# Altium integrated library Integrated_Library1.IntLib: 31 symbols
Pins are listed as number, name and electrical type; pins without a type are passive.

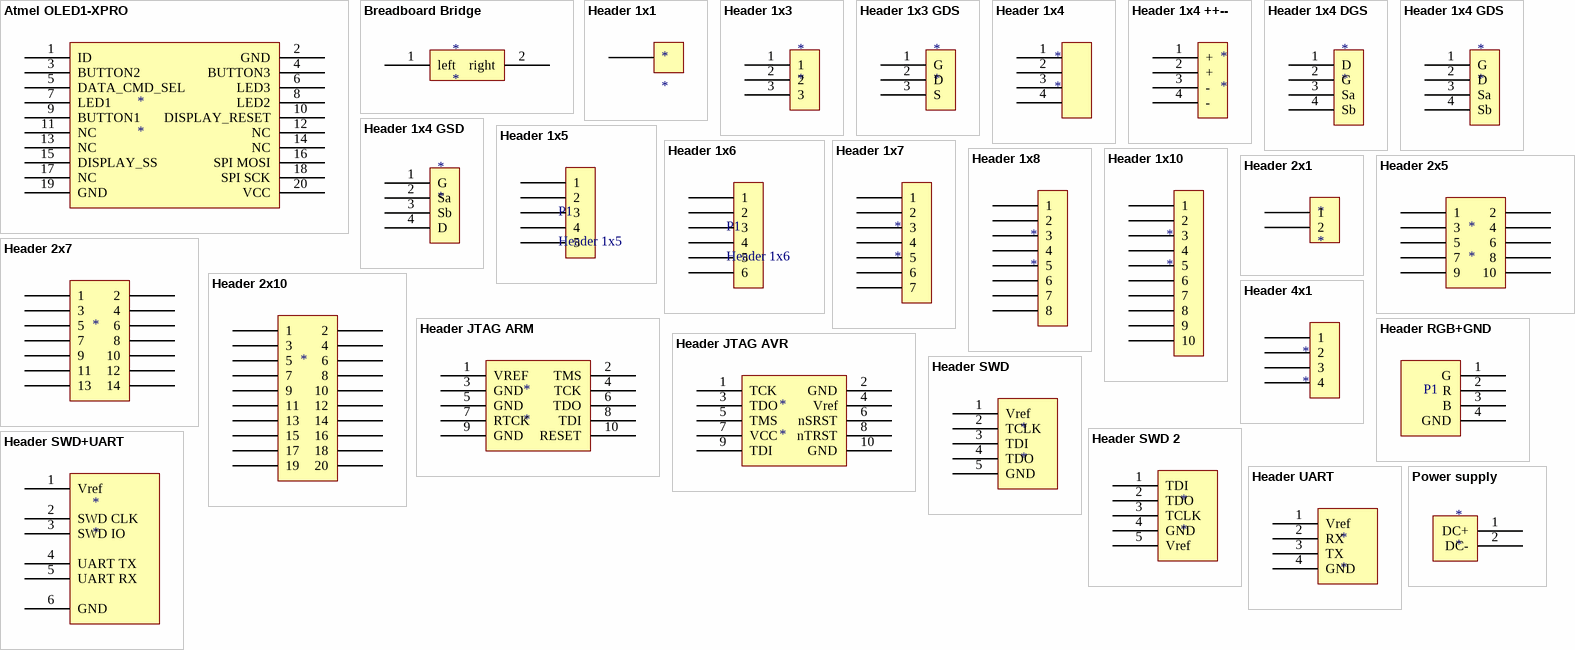
[diagram p0: symbols Atmel OLED1-XPRO to Power supply]

## Atmel OLED1-XPRO
designator *
pins: 1 ID, 2 GND, 3 BUTTON2, 4 BUTTON3, 5 DATA_CMD_SEL, 6 LED3, 7 LED1, 8 LED2, 9 BUTTON1, 10 DISPLAY_RESET, 11 NC, 12 NC, 13 NC, 14 NC, 15 DISPLAY_SS, 16 SPI MOSI, 17 NC, 18 SPI SCK, 19 GND, 20 VCC

## Breadboard Bridge
designator *
footprint Breadboard Bridge (2.54mm)
pins: 1 left, 2 right

## Header 1x1
designator *
footprint Header 1x1 long (2.54mm)
pins: 1

## Header 1x3
designator *
footprint Pin Header 1x3 TH Pitch 2.54mm (PinHeader 1x3 TH Pitch 2.54mm)
pins: 1, 2, 3

## Header 1x3 GDS
designator *
footprint Header 1x3 (2.54mm)
pins: 1 G, 2 D, 3 S

## Header 1x4
designator *
footprint Header 1x4 (2.54mm)
pins: 1, 2, 3, 4

## Header 1x4 ++--
designator *
footprint Header 1x4 (2.54mm)
pins: 1 +, 2 +, 3 -, 4 -

## Header 1x4 DGS
designator *
footprint Header 1x4 (2.54mm)
pins: 1 D, 2 G, 3 Sa, 4 Sb

## Header 1x4 GDS
designator *
footprint Header 1x4 (2.54mm)
pins: 1 G, 2 D, 3 Sa, 4 Sb

## Header 1x4 GSD
designator *
footprint Header 1x4 (2.54mm)
pins: 1 G, 2 Sa, 3 Sb, 4 D

## Header 1x5
designator P1
footprint Header 1x5 male (2.54mm)
pins: 1, 2, 3, 4, 5

## Header 1x6
designator P1
footprint Header 1x6 (2.54mm)
pins: 1, 2, 3, 4, 5, 6

## Header 1x7
designator *
footprint Header 1x7 (2.54mm)
pins: 1, 2, 3, 4, 5, 6, 7

## Header 1x8
designator *
pins: 1, 2, 3, 4, 5, 6, 7, 8

## Header 1x10
designator *
footprint Header 1x10 male (2.54mm)
pins: 1, 2, 3, 4, 5, 6, 7, 8, 9, 10

## Header 2x1
designator *
pins: 1, 2

## Header 2x5
designator *
pins: 1, 2, 3, 4, 5, 6, 7, 8, 9, 10

## Header 2x7
designator *  (value not drawn)
pins: 1, 2, 3, 4, 5, 6, 7, 8, 9, 10, 11, 12, 13, 14

## Header 2x10
designator *  (value not drawn)
pins: 1, 2, 3, 4, 5, 6, 7, 8, 9, 10, 11, 12, 13, 14, 15, 16, 17, 18, 19, 20

## Header 4x1
designator *
pins: 1, 2, 3, 4

## Header JTAG ARM
designator *
footprint Header 2x5 IDC-10S
pins: 1 VREF, 2 TMS, 3 GND, 4 TCK, 5 GND, 6 TDO, 7 RTCK, 8 TDI, 9 GND, 10 RESET

## Header JTAG AVR
designator *
footprint Header 2x5 IDC-10S
pins: 1 TCK, 2 GND, 3 TDO, 4 Vref, 5 TMS, 6 nSRST, 7 VCC, 8 nTRST, 9 TDI, 10 GND

## Header RGB+GND
designator P1  (value not drawn)
pins: 1 G, 2 R, 3 B, 4 GND

## Header SWD
designator *
pins: 1 Vref, 2 TCLK, 3 TDI, 4 TDO, 5 GND

## Header SWD 2
designator *
pins: 1 TDI, 2 TDO, 3 TCLK, 4 GND, 5 Vref

## Header SWD+UART
designator *
pins: 1 Vref, 2 SWD CLK, 3 SWD IO, 4 UART TX, 5 UART RX, 6 GND

## Header UART
designator *
pins: 1 Vref, 2 RX, 3 TX, 4 GND

## Power supply
designator *
pins: 1 DC+, 2 DC-


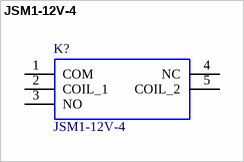
[diagram p1: symbol JSM1-12V-4]

## JSM1-12V-4
designator K?
PANASONIC ELECTRIC WORKS - JSM1-12V-4 - RELAY, AUTOMOTIVE, SPDT, 16VDC, 10A; Allied_Number: 70618207; Manufacturer_Name: Panasonic; Manufacturer_Part_Number: JSM1-12V-4; RS Part Number: *; RS Price/Stock: *; Allied Price/Stock: https://www.alliedelec.com/panasonic-jsm1-12v-4/70618207/; Arrow Part Number: JSM1-12V-4; Arrow Price/Stock: https://www.arrow.com/en/products/jsm1-12v-4/panasonic; Datasheet Link: https://media.digikey.com/pdf/Data%20Sheets/Panasonic%20Electric%20Works%20PDFs/JS-M_Series_Rev_Dec_2011.pdf
footprint JSM112V4
pins: 1 COM, 2 COIL_1, 3 NO, 4 NC, 5 COIL_2


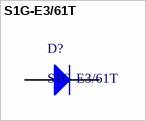
[diagram p2: symbol S1G-E3/61T]

## S1G-E3/61T
designator D?
Surface Mount Glass Passivated Rectifier, 400 VDC, 1 A, -55 to 150 degC, 2-Pin SMD, RoHS, Tape and Reel; Manufacturer: Vishay Semiconductor; RoHSCompliant: true; REACH SVHC: Unknown; Min Operating Temperature: -55 degC; ComponentLink2Description: Datasheet; DatasheetVersion: 02/2016; Mount: Surface Mount; Package Quantity: 1800; ComponentLink1URL: http://www.vishay.com/; ComponentLink1Description: Manufacturer URL; Height: 2.29 mm; Packaging: Tape and Reel; Pins: 2; Length: 4.5 mm; Max Operating Temperature: 150 degC; Mounting Technology: Surface Mount; PackageReference: DO-214AC-2; PackageDescription: 2-Pin Surface Mount Device, Body 4.245 x 2.665 mm; ComponentLink2URL: http://www.vishay.com/docs/88711/s1.pdf; PartNumber: S1G-E3/61T
footprint VISH-DO-214AC-SMA-2_N
footprint VISH-DO-214AC-SMA-2_M
footprint VISH-DO-214AC-SMA-2_L
pins: 1 A, 2 K


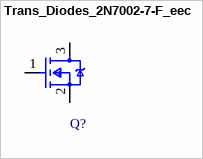
[diagram p3: symbol Trans_Diodes_2N7002-7-F_eec]

## Trans_Diodes_2N7002-7-F_eec
designator Q?
TRANS MOSFET N-CH 60V 115MA SOT23-3; Part Number: 2N7002-7-F; Manufacturer: Diodes; Category 9E07530Daf1645C0: Semiconductors and Actives; Category E7B12Abbd6523C76: MOSFETs; Category 2F8Ae2801E7Ef44D: Uncategorized; min_breakdown_voltage_gate_to_source: -20 V; Category 3B27F62D0A3Ae0E0: Discretes (diodes, transistors, thyristors ...); power_dissipation: 300 mW; Category Aa6D67679B8D71Aa: N Channel MOSFET; polarity: N-Channel; breakdown_voltage_drain_to_source: 70 V; max_breakdown_voltage_gate_to_source: 20 V; rds_drain_to_source_resistance_on: 4.4 Ω; Category D77D1A77E69F0Cba: Transistors; Num Pins: 3; helpURL: https://upverter.com/upn/revision/25d808f54d4a1cce/; ComponentLink2Description: Datasheet; Temperature: -55°C to +150°C; Package: SOT-23; Supplier 2: Mouser; Price: 0.0714567392161; Supplier 1: Digi-Key; ComponentLink1URL: https://upverter.com/upn/revision/25d808f54d4a1cce/; Supplier Part Number 2: 621-2N7002-F; Supplier Part Number 1: 2N7002-FDICT-ND; ComponentLink1Description: Upverter; ComponentLink2URL: https://upverter.com/datasheet/64901800f65d029d74a1b11cf5c344e3d7ff58ae.pdf; RoHS: TRUE; Mouser Part Number: 621-2N7002-F; voltage_rating_dc: 60 V; Ipc Land Pattern Name: SOT92P240X120-3; Category 6F04A20E5Eeab4C3: Uncategorized; Temperature Range High: +150°C; Digikey Description: TRANS MOSFET N-CH 60V 115MA SOT23-3; Digikey Part Number: 2N7002-FDICT-ND; Lead Free: yes; vds_drain_to_source_voltage: 60 V; Category 931F5E15A77D48D8: Uncategorized; Temperature Range Low: -55°C; id_continuous_drain_current: 115 mA; Mounting Type: surface mount; current_rating: 115 mA; Octopart Part Number: e39a2a95da213c5d
footprint Diodes_2N7002-7-F_0
pins: 1 Gate, 2 Source, 3 Drain